# Altium schematic symbol library ZED-F9P-15B.SchLib: 1 symbol
Pins are listed as number, name and electrical type; pins without a type are passive.

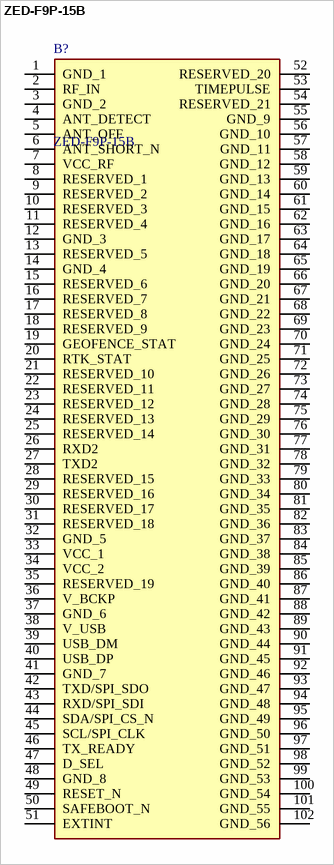
[diagram p0: symbol ZED-F9P-15B]

## ZED-F9P-15B
designator B?
GNSS / GPS Modules u-blox F9 dual band L1/L5 GNSS module high precision Professional Grade LGA, 16x12 mm, 250 pcs/reel; Geometry.Height: 2.6mm; Mouser Part Number: 377-ZED-F9P-15B; Mouser Price/Stock: https://www.mouser.co.uk/ProductDetail/u-blox/ZED-F9P-15B?qs=17ckDYBRdenfRLiwqzv37w%3D%3D; Manufacturer_Name: u-blox; Manufacturer_Part_Number: ZED-F9P-15B; Datasheet Link: https://content.u-blox.com/sites/default/files/documents/ZED-F9P-15B_DataSheet_UBX-23009090.pdf
footprint ZEDF9P15B
pins: 1 GND_1, 2 RF_IN, 3 GND_2, 4 ANT_DETECT, 5 ANT_OFF, 6 ANT_SHORT_N, 7 VCC_RF, 8 RESERVED_1, 9 RESERVED_2, 10 RESERVED_3, 11 RESERVED_4, 12 GND_3, 13 RESERVED_5, 14 GND_4, 15 RESERVED_6, 16 RESERVED_7, 17 RESERVED_8, 18 RESERVED_9, 19 GEOFENCE_STAT, 20 RTK_STAT, 21 RESERVED_10, 22 RESERVED_11, 23 RESERVED_12, 24 RESERVED_13, 25 RESERVED_14, 26 RXD2, 27 TXD2, 28 RESERVED_15, 29 RESERVED_16, 30 RESERVED_17, 31 RESERVED_18, 32 GND_5, 33 VCC_1, 34 VCC_2, 35 RESERVED_19, 36 V_BCKP, 37 GND_6, 38 V_USB, 39 USB_DM, 40 USB_DP, 41 GND_7, 42 TXD/SPI_SDO, 43 RXD/SPI_SDI, 44 SDA/SPI_CS_N, 45 SCL/SPI_CLK, 46 TX_READY, 47 D_SEL, 48 GND_8, 49 RESET_N, 50 SAFEBOOT_N, 51 EXTINT, 52 RESERVED_20, 53 TIMEPULSE, 54 RESERVED_21, 55 GND_9, 56 GND_10, 57 GND_11, 58 GND_12, 59 GND_13, 60 GND_14, 61 GND_15, 62 GND_16, 63 GND_17, 64 GND_18, 65 GND_19, 66 GND_20, 67 GND_21, 68 GND_22, 69 GND_23, 70 GND_24, 71 GND_25, 72 GND_26, 73 GND_27, 74 GND_28, 75 GND_29, 76 GND_30, 77 GND_31, 78 GND_32, 79 GND_33, 80 GND_34, 81 GND_35, 82 GND_36, 83 GND_37, 84 GND_38, 85 GND_39, 86 GND_40, 87 GND_41, 88 GND_42, 89 GND_43, 90 GND_44, 91 GND_45, 92 GND_46, 93 GND_47, 94 GND_48, 95 GND_49, 96 GND_50, 97 GND_51, 98 GND_52, 99 GND_53, 100 GND_54, 101 GND_55, 102 GND_56